# Altium footprint library linear.PCBLIB: 119 footprints (part 4 of 8)
Each footprint in its own frame and in the unit in brackets; x right, y up, seen from the top. Pads: shape width x height; smd on the part's side, far side on the other; paste and mask are expansions set on the pad; w line width, h text height; cw(c..) or ccw(c..) is an arc to the next point about the centre after c.
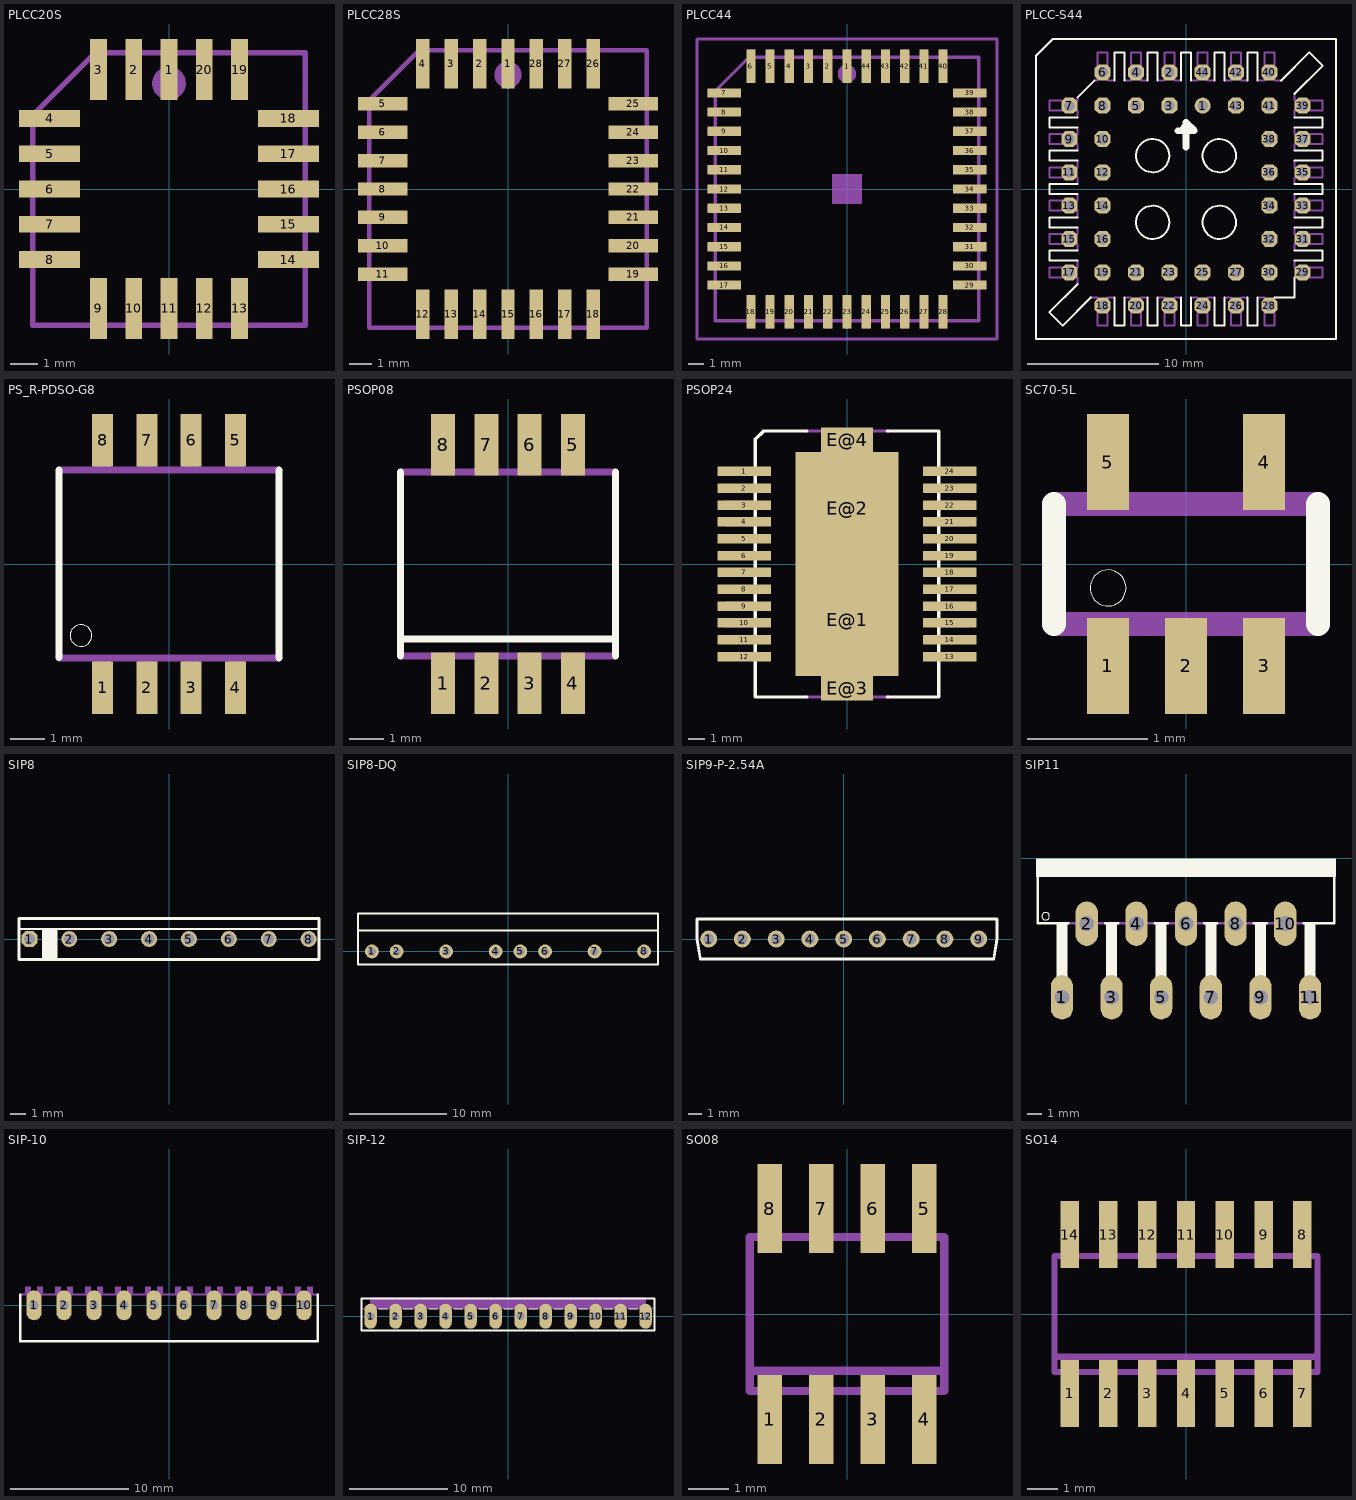
[diagram p3: the footprints below, top view; thin cyan lines are the x and y axes]

## PLCC20S [mil]
pads (20):
  rect 23.62x86.61 smd: 1(0,169.29) 2(-50,169.29) 3(-100,169.29) 9(-100,-169.29) 10(-50,-169.29) 11(0,-169.29) 12(50,-169.29) 13(100,-169.29) 19(100,169.29) 20(50,169.29)
  rect 86.61x23.62 smd: 4(-169.29,100) 5(-169.29,50) 6(-169.29,0) 7(-169.29,-50) 8(-169.29,-100) 14(169.29,-100) 15(169.29,-50) 16(169.29,0) 17(169.29,50) 18(169.29,100)
Mechanical 16:
  circle w24: c0,149.61 r11.81
  rectangle: -10.24,194.88 10.24,212.6
  rectangle: -60.24,194.88 -39.76,212.6
  rectangle: -110.24,194.88 -89.76,212.6
  rectangle: -212.6,89.76 -194.88,110.24
  rectangle: -212.6,39.76 -194.88,60.24
  rectangle: -212.6,-10.24 -194.88,10.24
  rectangle: -212.6,-60.24 -194.88,-39.76
  rectangle: -212.6,-110.24 -194.88,-89.76
  rectangle: -110.24,-212.6 -89.76,-194.88
  rectangle: -60.24,-212.6 -39.76,-194.88
  rectangle: -10.24,-212.6 10.24,-194.88
  rectangle: 39.76,-212.6 60.24,-194.88
  rectangle: 89.76,-212.6 110.24,-194.88
  rectangle: 194.88,-110.24 212.6,-89.76
  rectangle: 194.88,-60.24 212.6,-39.76
  rectangle: 194.88,-10.24 212.6,10.24
  rectangle: 194.88,39.76 212.6,60.24
  rectangle: 194.88,89.76 212.6,110.24
  rectangle: 89.76,194.88 110.24,212.6
  rectangle: 39.76,194.88 60.24,212.6
  lines w8: -192.91,-192.91 -192.91,104.92 -104.92,192.91 192.91,192.91 192.91,-192.91 -192.91,-192.91

## PLCC28S [mil]
pads (28):
  rect 23.62x86.61 smd: 1(0,220.47) 2(-50,220.47) 3(-100,220.47) 4(-150,220.47) 12(-150,-220.47) 13(-100,-220.47) 14(-50,-220.47) 15(0,-220.47) 16(50,-220.47) 17(100,-220.47) 18(150,-220.47) 26(150,220.47) 27(100,220.47) 28(50,220.47)
  rect 86.61x23.62 smd: 5(-220.47,150) 6(-220.47,100) 7(-220.47,50) 8(-220.47,0) 9(-220.47,-50) 10(-220.47,-100) 11(-220.47,-150) 19(220.47,-150) 20(220.47,-100) 21(220.47,-50) 22(220.47,0) 23(220.47,50) 24(220.47,100) 25(220.47,150)
Mechanical 16:
  circle w24: c0,200.79 r11.81
  rectangle: -10.24,246.06 10.24,263.78
  rectangle: -60.24,246.06 -39.76,263.78
  rectangle: -110.24,246.06 -89.76,263.78
  rectangle: -160.24,246.06 -139.76,263.78
  rectangle: -263.78,139.76 -246.06,160.24
  rectangle: -263.78,89.76 -246.06,110.24
  rectangle: -263.78,39.76 -246.06,60.24
  rectangle: -263.78,-10.24 -246.06,10.24
  rectangle: -263.78,-60.24 -246.06,-39.76
  rectangle: -263.78,-110.24 -246.06,-89.76
  rectangle: -263.78,-160.24 -246.06,-139.76
  rectangle: -160.24,-263.78 -139.76,-246.06
  rectangle: -110.24,-263.78 -89.76,-246.06
  rectangle: -60.24,-263.78 -39.76,-246.06
  rectangle: -10.24,-263.78 10.24,-246.06
  rectangle: 39.76,-263.78 60.24,-246.06
  rectangle: 89.76,-263.78 110.24,-246.06
  rectangle: 139.76,-263.78 160.24,-246.06
  rectangle: 246.06,-160.24 263.78,-139.76
  rectangle: 246.06,-110.24 263.78,-89.76
  rectangle: 246.06,-60.24 263.78,-39.76
  rectangle: 246.06,-10.24 263.78,10.24
  rectangle: 246.06,39.76 263.78,60.24
  rectangle: 246.06,89.76 263.78,110.24
  rectangle: 246.06,139.76 263.78,160.24
  rectangle: 139.76,246.06 160.24,263.78
  rectangle: 89.76,246.06 110.24,263.78
  rectangle: 39.76,246.06 60.24,263.78
  lines w8: -244.09,-244.09 -244.09,156.1 -156.1,244.09 244.09,244.09 244.09,-244.09 -244.09,-244.09

## PLCC44 [mil]
pads (44):
  rect 23.62x86.61 smd: 1(0,318.9) 2(-50,318.9) 3(-100,318.9) 4(-150,318.9) 5(-200,318.9) 6(-250,318.9) 18(-250,-318.9) 19(-200,-318.9) 20(-150,-318.9) 21(-100,-318.9) 22(-50,-318.9) 23(0,-318.9) 24(50,-318.9) 25(100,-318.9) 26(150,-318.9) 27(200,-318.9) 28(250,-318.9) 40(250,318.9) 41(200,318.9) 42(150,318.9) 43(100,318.9) 44(50,318.9)
  rect 86.61x23.62 smd: 7(-318.9,250) 8(-318.9,200) 9(-318.9,150) 10(-318.9,100) 11(-318.9,50) 12(-318.9,0) 13(-318.9,-50) 14(-318.9,-100) 15(-318.9,-150) 16(-318.9,-200) 17(-318.9,-250) 29(318.9,-250) 30(318.9,-200) 31(318.9,-150) 32(318.9,-100) 33(318.9,-50) 34(318.9,0) 35(318.9,50) 36(318.9,100) 37(318.9,150) 38(318.9,200) 39(318.9,250)
Mechanical 6:
  rectangle: -39.37,-39.37 39.37,39.37
Mechanical 16:
  circle w24: c0,299.21 r11.81
  rectangle: -10.24,344.49 10.24,362.2
  rectangle: -60.24,344.49 -39.76,362.2
  rectangle: -110.24,344.49 -89.76,362.2
  rectangle: -160.24,344.49 -139.76,362.2
  rectangle: -210.24,344.49 -189.76,362.2
  rectangle: -260.24,344.49 -239.76,362.2
  rectangle: -362.2,239.76 -344.49,260.24
  rectangle: -362.2,189.76 -344.49,210.24
  rectangle: -362.2,139.76 -344.49,160.24
  rectangle: -362.2,89.76 -344.49,110.24
  rectangle: -362.2,39.76 -344.49,60.24
  rectangle: -362.2,-10.24 -344.49,10.24
  rectangle: -362.2,-60.24 -344.49,-39.76
  rectangle: -362.2,-110.24 -344.49,-89.76
  rectangle: -362.2,-160.24 -344.49,-139.76
  rectangle: -362.2,-210.24 -344.49,-189.76
  rectangle: -362.2,-260.24 -344.49,-239.76
  rectangle: -260.24,-362.2 -239.76,-344.49
  rectangle: -210.24,-362.2 -189.76,-344.49
  rectangle: -160.24,-362.2 -139.76,-344.49
  rectangle: -110.24,-362.2 -89.76,-344.49
  rectangle: -60.24,-362.2 -39.76,-344.49
  rectangle: -10.24,-362.2 10.24,-344.49
  rectangle: 39.76,-362.2 60.24,-344.49
  rectangle: 89.76,-362.2 110.24,-344.49
  rectangle: 139.76,-362.2 160.24,-344.49
  rectangle: 189.76,-362.2 210.24,-344.49
  rectangle: 239.76,-362.2 260.24,-344.49
  rectangle: 344.49,-260.24 362.2,-239.76
  rectangle: 344.49,-210.24 362.2,-189.76
  rectangle: 344.49,-160.24 362.2,-139.76
  rectangle: 344.49,-110.24 362.2,-89.76
  rectangle: 344.49,-60.24 362.2,-39.76
  rectangle: 344.49,-10.24 362.2,10.24
  rectangle: 344.49,39.76 362.2,60.24
  rectangle: 344.49,89.76 362.2,110.24
  rectangle: 344.49,139.76 362.2,160.24
  rectangle: 344.49,189.76 362.2,210.24
  rectangle: 344.49,239.76 362.2,260.24
  rectangle: 239.76,344.49 260.24,362.2
  rectangle: 189.76,344.49 210.24,362.2
  rectangle: 139.76,344.49 160.24,362.2
  rectangle: 89.76,344.49 110.24,362.2
  rectangle: 39.76,344.49 60.24,362.2
  lines w8: -342.52,-342.52 -342.52,254.53 -254.53,342.52 342.52,342.52 342.52,-342.52 -342.52,-342.52
  text "IPC PLCC-44 Suare" at -234.65,168.11 h37.2
Mechanical 27:
  lines w7.87: -389.88,-389.88 389.88,-389.88 389.88,389.88 -389.88,389.88 -389.88,-389.88

## PLCC-S44 [mil]
pads (44):
  round 48 hole 32: 1(50,250)
  oct 48x48 hole 32: 2(-50,350) 3(-50,250) 4(-150,350) 5(-150,250) 6(-250,350) 7(-350,250) 8(-250,250) 9(-350,150) 10(-250,150) 11(-350,50) 12(-250,50) 13(-350,-50) 14(-250,-50) 15(-350,-150) 16(-250,-150) 17(-350,-250) 18(-250,-350) 19(-250,-250) 20(-150,-350) 21(-150,-250) 22(-50,-350) 23(-50,-250) 24(50,-350) 25(50,-250) 26(150,-350) 27(150,-250) 28(250,-350) 29(350,-250) 30(250,-250) 31(350,-150) 32(250,-150) 33(350,-50) 34(250,-50) 35(350,50) 36(250,50) 37(350,150) 38(250,150) 39(350,250) 40(250,350) 41(250,250) 42(150,350) 43(150,250) 44(50,350)
Top Overlay:
  circle w6: c-100,100 r50
  circle w6: c100,100 r50
  circle w6: c-100,-100 r50
  circle w6: c100,-100 r50
  lines w6: -325,-285 -410,-370 -370,-410 -285,-325 ; -325,-215 -410,-215 -410,-185 -325,-185 ; -325,-115 -410,-115 -410,-85 -325,-85 ; -325,-15 -410,-15 -410,15 -325,15 ; -325,85 -410,85 -410,115 -325,115 ; -325,185 -410,185 -410,215 -325,215 ; -325,275 -275,325 ; -215,-325 -215,-410 -185,-410 -185,-325 ; -215,325 -215,410 -185,410 -185,325 ; -115,-325 -115,-410 -85,-410 -85,-325 ; -115,325 -115,410 -85,410 -85,325 ; -25,175 0,200 ; -15,-325 -15,-410 15,-410 15,-325 ; -15,325 -15,410 15,410 15,325 ; 85,-325 85,-410 115,-410 115,-325 ; 85,325 85,410 115,410 115,325 ; 185,-325 185,-410 215,-410 215,-325 ; 185,325 185,410 215,410 215,325 ; 265,-325 325,-325 325,-265 ; 285,325 370,410 410,370 325,285 ; 325,-215 410,-215 410,-185 325,-185 ; 325,-115 410,-115 410,-85 325,-85 ; 325,-15 410,-15 410,15 325,15 ; 325,85 410,85 410,115 325,115 ; 325,185 410,185 410,215 325,215 ; -450,-450 -450,400 -400,450 450,450 450,-450 -450,-450
  lines w20: -25,175 25,175 0,200 0,125
Mechanical 16:
  lines w6: -325,-285 -325,-265 -410,-265 -410,-235 -325,-235 -325,-215 ; -325,-185 -325,-165 -410,-165 -410,-135 -325,-135 -325,-115 ; -325,-85 -325,-65 -410,-65 -410,-35 -325,-35 -325,-15 ; -325,15 -325,35 -410,35 -410,65 -325,65 -325,85 ; -325,115 -325,135 -410,135 -410,165 -325,165 -325,185 ; -325,215 -325,235 -410,235 -410,265 -325,265 -325,275 ; -285,-325 -265,-325 -265,-410 -235,-410 -235,-325 -215,-325 ; -275,325 -265,325 -265,410 -235,410 -235,325 -215,325 ; -185,-325 -165,-325 -165,-410 -135,-410 -135,-325 -115,-325 ; -185,325 -165,325 -165,410 -135,410 -135,325 -115,325 ; -85,-325 -65,-325 -65,-410 -35,-410 -35,-325 -15,-325 ; -85,325 -65,325 -65,410 -35,410 -35,325 -15,325 ; 15,-325 35,-325 35,-410 65,-410 65,-325 85,-325 ; 15,325 35,325 35,410 65,410 65,325 85,325 ; 115,-325 135,-325 135,-410 165,-410 165,-325 185,-325 ; 115,325 135,325 135,410 165,410 165,325 185,325 ; 215,-325 235,-325 235,-410 265,-410 265,-325 ; 215,325 235,325 235,410 265,410 265,325 285,325 ; 325,-265 410,-265 410,-235 325,-235 325,-215 ; 325,-185 325,-165 410,-165 410,-135 325,-135 325,-115 ; 325,-85 325,-65 410,-65 410,-35 325,-35 325,-15 ; 325,15 325,35 410,35 410,65 325,65 325,85 ; 325,115 325,135 410,135 410,165 325,165 325,185 ; 325,215 325,235 410,235 410,265 325,265 325,285

## PS_R-PDSO-G8 [mil]
pads (8):
  rect 23.62x59.06 smd: 1(-75,-139.76) 2(-25,-139.76) 3(25,-139.76) 4(75,-139.76) 5(75,139.76) 6(25,139.76) 7(-25,139.76) 8(-75,139.76)
Top Overlay:
  circle w0: c-99.41,-80.71 r12.17
  lines w8: -124.02,-105.32 -124.02,106.3 ; 124.02,-106.3 124.02,106.3
Mechanical 16:
  rectangle: -84.65,-161.42 -65.35,-110.24
  rectangle: -34.65,-161.42 -15.35,-110.24
  rectangle: 15.35,-161.42 34.65,-110.24
  rectangle: 65.35,-161.42 84.65,-110.24
  rectangle: 65.35,110.24 84.65,161.42
  rectangle: 15.35,110.24 34.65,161.42
  rectangle: -34.65,110.24 -15.35,161.42
  rectangle: -84.65,110.24 -65.35,161.42
  lines w8: -124.02,-106.3 124.02,-106.3 ; -124.02,106.3 124.02,106.3

## PSOP08 [mil]
pads (8):
  rect 27.56x70.87 smd: 1(-75,-137.8) 2(-25,-137.8) 3(25,-137.8) 4(75,-137.8) 5(75,137.8) 6(25,137.8) 7(-25,137.8) 8(-75,137.8)
Top Overlay:
  lines w8: -124.02,-106.3 -124.02,-86.61 ; -124.02,106.3 -124.02,-86.61 ; 124.02,-106.3 124.02,-86.61 ; 124.02,106.3 124.02,-86.61 ; -124.02,-86.61 124.02,-86.61
Mechanical 16:
  rectangle: -84.65,-161.42 -65.35,-108.27
  rectangle: -34.65,-161.42 -15.35,-108.27
  rectangle: 15.35,-161.42 34.65,-108.27
  rectangle: 65.35,-161.42 84.65,-108.27
  rectangle: 65.35,108.27 84.65,161.42
  rectangle: 15.35,108.27 34.65,161.42
  rectangle: -34.65,108.27 -15.35,161.42
  rectangle: -84.65,108.27 -65.35,161.42
  lines w8: -124.02,-106.3 124.02,-106.3 ; -124.02,106.3 124.02,106.3

## PSOP24 [mm]
pads (28):
  rect 3.18x0.56 smd: 1(-6.095,5.5) 2(-6.095,4.5) 3(-6.095,3.5) 4(-6.095,2.5) 5(-6.095,1.5) 6(-6.095,0.5) 7(-6.095,-0.5) 8(-6.095,-1.5) 9(-6.095,-2.5) 10(-6.095,-3.5) 11(-6.095,-4.5) 12(-6.095,-5.5) 13(6.095,-5.5) 14(6.095,-4.5) 15(6.095,-3.5) 16(6.095,-2.5) 17(6.095,-1.5) 18(6.095,-0.5) 19(6.095,0.5) 20(6.095,1.5) 21(6.095,2.5) 22(6.095,3.5) 23(6.095,4.5) 24(6.095,5.5)
  rect 6.13x6.67 smd: E@1(0,-3.32) E@2(0,3.32)
  rect 3.07x1.47 smd: E@3(0,-7.375) E@4(0,7.375)
Top Overlay:
  lines w0.203: -2.4,-7.898 -5.448,-7.898 -5.448,7.399 -4.948,7.898 -2.4,7.898 ; 2.4,-7.898 5.448,-7.898 5.448,7.898 2.4,7.898
Mechanical 16:
  rectangle: -7.25,5.235 -5.55,5.765
  rectangle: -7.25,4.235 -5.55,4.765
  rectangle: -7.25,3.235 -5.55,3.765
  rectangle: -7.25,2.235 -5.55,2.765
  rectangle: -7.25,1.235 -5.55,1.765
  rectangle: -7.25,0.235 -5.55,0.765
  rectangle: -7.25,-0.765 -5.55,-0.235
  rectangle: -7.25,-1.765 -5.55,-1.235
  rectangle: -7.25,-2.765 -5.55,-2.235
  rectangle: -7.25,-3.765 -5.55,-3.235
  rectangle: -7.25,-4.765 -5.55,-4.235
  rectangle: -7.25,-5.765 -5.55,-5.235
  rectangle: 5.55,-5.765 7.25,-5.235
  rectangle: 5.55,-4.765 7.25,-4.235
  rectangle: 5.55,-3.765 7.25,-3.235
  rectangle: 5.55,-2.765 7.25,-2.235
  rectangle: 5.55,-1.765 7.25,-1.235
  rectangle: 5.55,-0.765 7.25,-0.235
  rectangle: 5.55,0.235 7.25,0.765
  rectangle: 5.55,1.235 7.25,1.765
  rectangle: 5.55,2.235 7.25,2.765
  rectangle: 5.55,3.235 7.25,3.765
  rectangle: 5.55,4.235 7.25,4.765
  rectangle: 5.55,5.235 7.25,5.765
  lines w0.203: -2.448,-7.898 -1.4,-7.898 ; -2.448,7.898 -1.4,7.898 ; 2.448,-7.898 1.4,-7.898 ; 2.448,7.898 1.4,7.898 ; -1.4,-7.898 1.4,-7.898 ; -1.4,-7.898 -1.4,-6.8 1.4,-6.8 1.4,-7.898 ; -1.4,7.898 -1.4,6.8 1.4,6.8 1.4,7.898 ; -1.4,7.898 1.4,7.898

## SC70-5L [mm]
pads (5):
  rect 0.35x0.8 smd: 1(-0.65,-0.85) 2(0,-0.85) 3(0.65,-0.85) 4(0.65,0.85) 5(-0.65,0.85)
Top Overlay:
  circle w0: c-0.65,-0.2 r0.15
  lines w0.203: -1.1,-0.5 -1.1,0.5 ; 1.1,-0.5 1.1,0.5
Mechanical 16:
  rectangle: 0.5,0.6 0.8,1.1
  rectangle: -0.8,0.6 -0.5,1.1
  rectangle: -0.8,-1.1 -0.5,-0.6
  rectangle: -0.15,-1.1 0.15,-0.6
  rectangle: 0.5,-1.1 0.8,-0.6
  lines w0.203: -1.1,-0.5 1.1,-0.5 ; -1.1,0.5 1.1,0.5

## SIP8 [mil]
pads (8):
  oct 40x40 hole 27.56: 1(-350,0)
  round 40 hole 27.56: 2(-250,0) 3(-150,0) 4(-50,0) 5(50,0) 6(150,0) 7(250,0) 8(350,0)
Top Overlay:
  region: -279.13,25 -318.5,25 -318.5,-50.2 -279.13,-50.2
  lines w4: -375,25 375,25
  lines w8: -375.98,-51.18 375.98,-51.18 375.98,51.18 -375.98,51.18 -375.98,-51.18

## SIP8-DQ [mil]
pads (8):
  round 56 hole 31.5: 1(-550,0) 2(-450,0) 3(-250,0) 4(-50,0) 5(50,0) 6(150,0) 7(350,0) 8(550,0)
Top Overlay:
  lines w8: 606.3,84.65 -606.3,84.65 ; -606.3,84.65 -606.3,-53.15 606.3,-53.15 606.3,153.54 -606.3,153.54 -606.3,84.65

## SIP9-P-2.54A [mil]
pads (9):
  round 50 hole 31.5: 1(-400,0) 2(-300,0) 3(-200,0) 4(-100,0) 5(0,0) 6(100,0) 7(200,0) 8(300,0) 9(400,0)
Top Overlay:
  lines w8: -434.45,0 -424.61,-58.07 -424.61,-59.06 444.49,-59.06 454.33,0 454.33,59.06 -434.45,59.06 -434.45,0

## SIP11 [mil]
pads (11):
  oval 60x120 hole 40: 1(-335,-375) 2(-268,-176) 3(-201,-375) 4(-134,-176) 5(-67,-375) 6(0,-176) 7(67,-375) 8(134,-176) 9(201,-375) 10(268,-176) 11(335,-375)
Top Overlay:
  circle w2: c-379,-156 r10
  rectangle: -405,-50 405,0
  rectangle: -350,-325 -320,-175
  rectangle: -216,-325 -186,-175
  rectangle: -82,-325 -52,-175
  rectangle: 52,-325 82,-175
  rectangle: 186,-325 216,-175
  rectangle: 320,-325 350,-175
  lines w6: -400,-50 -400,-175 -317,-175 ; -219,-175 -183,-175 ; -85,-175 -49,-175 ; 49,-175 85,-175 ; 183,-175 219,-175 ; 317,-175 400,-175 400,-50
Mechanical 16:
  rectangle: 320,-380 350,-325
  rectangle: 186,-380 216,-325
  rectangle: 52,-380 82,-325
  rectangle: -82,-380 -52,-325
  rectangle: -216,-380 -186,-325
  rectangle: -350,-380 -320,-325
  lines w6: -317,-175 -219,-175 ; -183,-175 -85,-175 ; -49,-175 49,-175 ; 85,-175 183,-175 ; 219,-175 317,-175

## SIP-10 [mil]
pads (10):
  oval 50x100 hole 31.5: 1(-450,0) 2(-350,0) 3(-250,0) 4(-150,0) 5(-50,0) 6(50,0) 7(150,0) 8(250,0) 9(350,0) 10(450,0)
Top Overlay:
  lines w8: -495.87,36.02 -495.87,-120.28 495.87,-120.28 495.87,36.02
Mechanical 16:
  rectangle: -480,40 -460,62
  rectangle: -440,40 -420,62
  rectangle: -380,40 -360,62
  rectangle: -340,40 -320,62
  rectangle: -280,40 -260,62
  rectangle: -240,40 -220,62
  rectangle: -180,40 -160,62
  rectangle: -140,40 -120,62
  rectangle: -80,40 -60,62
  rectangle: -40,40 -20,62
  rectangle: 20,40 40,62
  rectangle: 60,40 80,62
  rectangle: 120,40 140,62
  rectangle: 160,40 180,62
  rectangle: 220,40 240,62
  rectangle: 260,40 280,62
  rectangle: 320,40 340,62
  rectangle: 360,40 380,62
  rectangle: 420,40 440,62
  rectangle: 460,40 480,62
  lines w8: -495.87,36.02 495.87,36.02

## SIP-12 [mil]
pads (12):
  oval 50x100 hole 31.5: 1(-550,0) 2(-450,0) 3(-350,0) 4(-250,0) 5(-150,0) 6(-50,0) 7(50,0) 8(150,0) 9(250,0) 10(350,0) 11(450,0) 12(550,0)
Top Overlay:
  lines w4: -517.72,30.51 -481.3,30.51 ; -418.31,30.51 -381.89,30.51 ; -317.72,30.51 -281.3,30.51 ; -217.72,30.51 -181.3,30.51 ; -117.72,30.51 -81.3,30.51 ; -17.72,30.51 18.7,30.51 ; 82.28,30.51 118.7,30.51 ; 182.28,30.51 218.7,30.51 ; 282.28,30.51 318.7,30.51 ; 382.28,30.51 418.7,30.51 ; 482.28,30.51 518.7,30.51
  lines w8: -585.63,-58.07 585.63,-58.07 585.63,71.85 -585.63,71.85 -585.63,-58.07
Mechanical 16:
  rectangle: -551.18,28.54 551.18,75.79
  lines w4: -581.69,30.51 -550.2,30.51 ; 550.2,30.51 581.69,30.51

## SO08 [mil]
pads (8):
  rect 23.62x86.61 smd: 1(-75,-102.36) 2(-25,-102.36) 3(25,-102.36) 4(75,-102.36) 5(75,102.36) 6(25,102.36) 7(-25,102.36) 8(-75,102.36)
Mechanical 16:
  rectangle: -84.65,-122.05 -65.35,-78.74
  rectangle: -34.65,-122.05 -15.35,-78.74
  rectangle: 15.35,-122.05 34.65,-78.74
  rectangle: 65.35,-122.05 84.65,-78.74
  rectangle: 65.35,78.74 84.65,122.05
  rectangle: 15.35,78.74 34.65,122.05
  rectangle: -34.65,78.74 -15.35,122.05
  rectangle: -84.65,78.74 -65.35,122.05
  lines w8: -94.49,-55.12 -94.49,-74.8 94.49,-74.8 94.49,-55.12 ; -94.49,-55.12 -94.49,74.8 94.49,74.8 94.49,-55.12 ; -94.49,-55.12 94.49,-55.12

## SO14 [mil]
pads (14):
  rect 23.62x86.61 smd: 1(-150,-102.36) 2(-100,-102.36) 3(-50,-102.36) 4(0,-102.36) 5(50,-102.36) 6(100,-102.36) 7(150,-102.36) 8(150,102.36) 9(100,102.36) 10(50,102.36) 11(0,102.36) 12(-50,102.36) 13(-100,102.36) 14(-150,102.36)
Mechanical 16:
  rectangle: -159.65,-122.05 -140.35,-78.74
  rectangle: -109.65,-122.05 -90.35,-78.74
  rectangle: -59.65,-122.05 -40.35,-78.74
  rectangle: -9.65,-122.05 9.65,-78.74
  rectangle: -9.65,78.74 9.65,122.05
  rectangle: -59.65,78.74 -40.35,122.05
  rectangle: -109.65,78.74 -90.35,122.05
  rectangle: -159.65,78.74 -140.35,122.05
  rectangle: 40.35,-122.05 59.65,-78.74
  rectangle: 90.35,-122.05 109.65,-78.74
  rectangle: 140.35,-122.05 159.65,-78.74
  rectangle: 140.35,78.74 159.65,122.05
  rectangle: 90.35,78.74 109.65,122.05
  rectangle: 40.35,78.74 59.65,122.05
  lines w8: -169.49,-55.12 -169.49,-74.8 169.49,-74.8 169.49,-55.12 ; -169.49,-55.12 -169.49,74.8 169.49,74.8 169.49,-55.12 ; -169.49,-55.12 169.49,-55.12